# Altium schematic symbol library Connectors.SchLib: 20 symbols
Pins are listed as number, name and electrical type; pins without a type are passive.

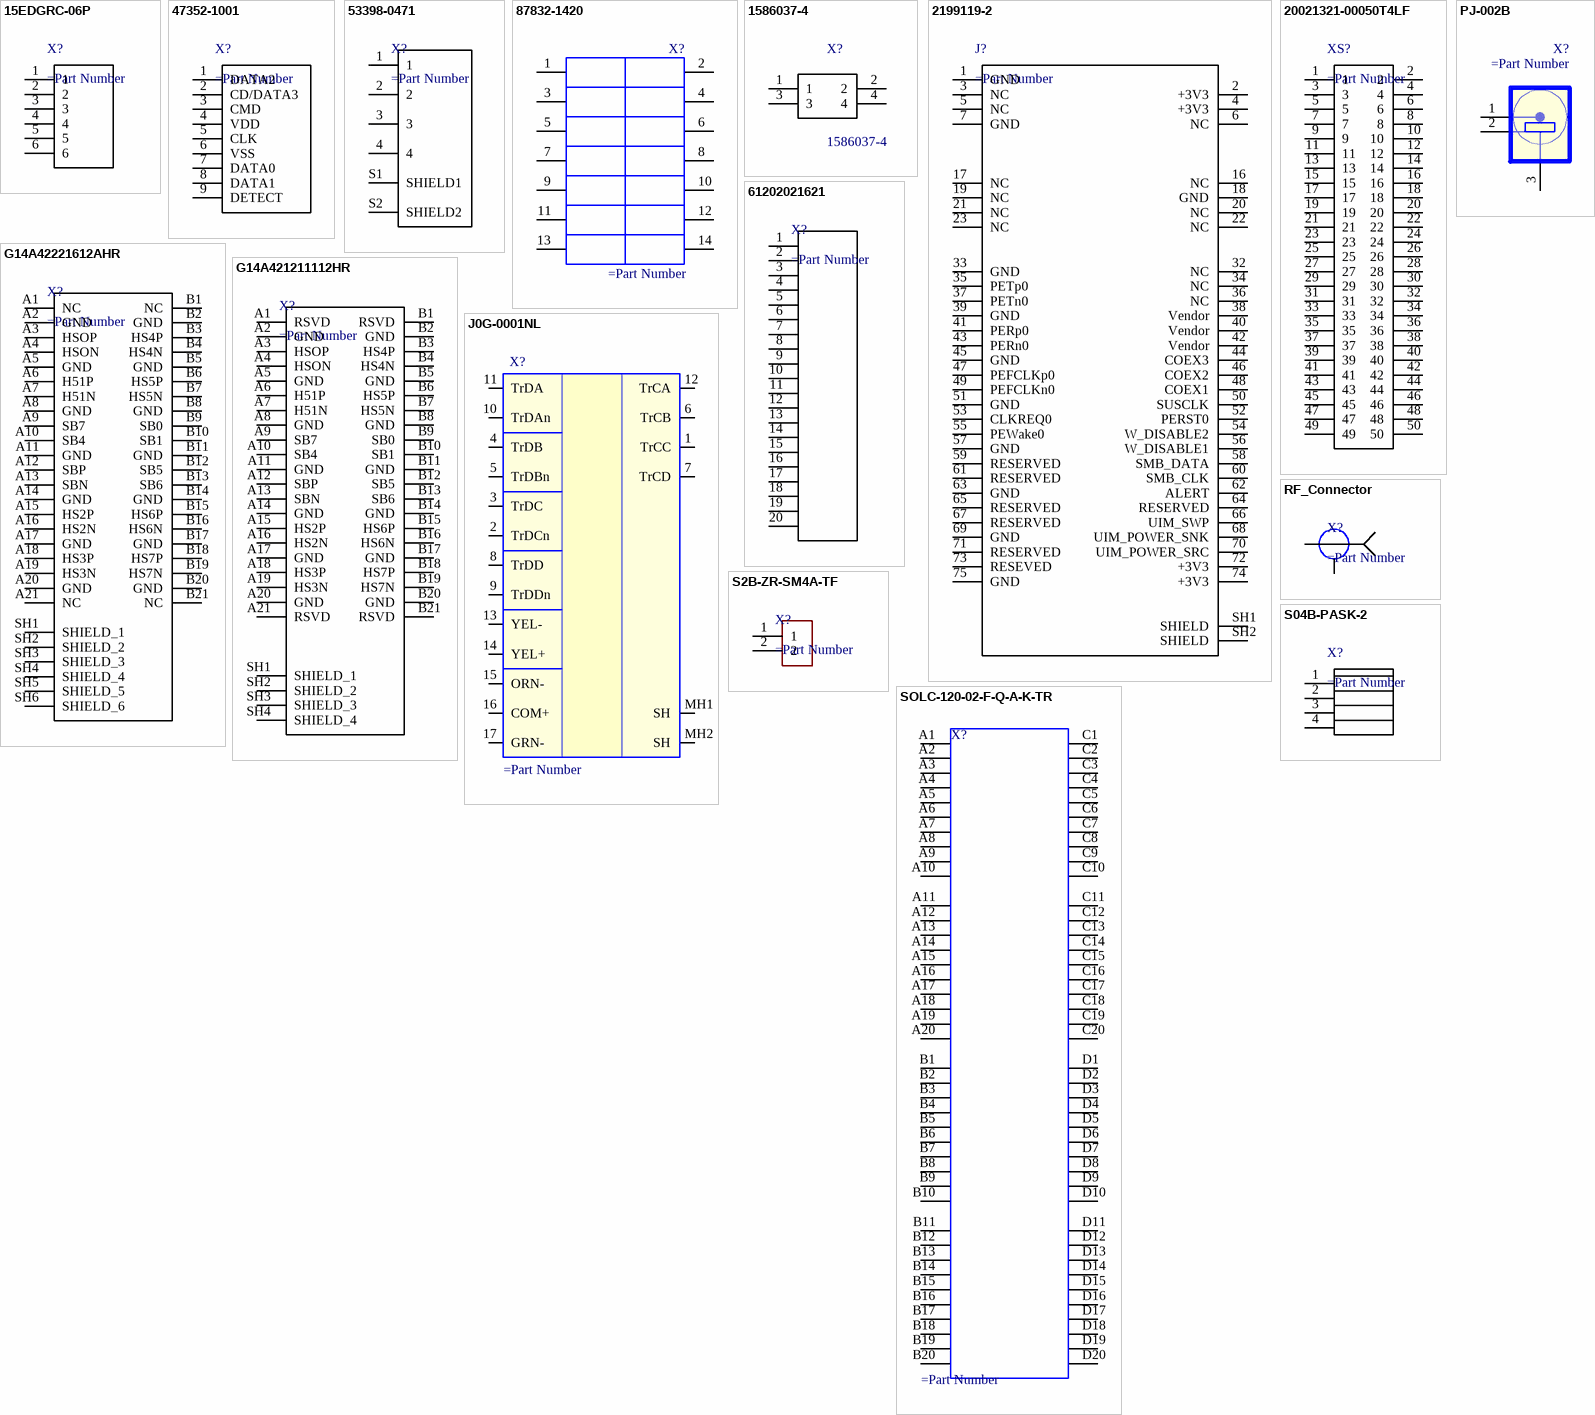
[diagram p0: symbols 15EDGRC-06P to SOLC-120-02-F-Q-A-K-TR]

## 15EDGRC-06P
designator X?
pins: 1, 2, 3, 4, 5, 6

## 47352-1001
designator X?
pins: 1 DATA2, 2 CD/DATA3, 3 CMD, 4 VDD, 5 CLK, 6 VSS, 7 DATA0, 8 DATA1, 9 DETECT

## 53398-0471
designator X?
pins: 1, 2, 3, 4, S1 SHIELD1, S2 SHIELD2

## 87832-1420
designator X?
pins: 1, 2, 3, 4, 5, 6, 7, 8, 9, 10, 11, 12, 13, 14

## 1586037-4
designator X?
pins: 1, 2, 3, 4

## 2199119-2
designator J?
pins: 1 GND, 2 +3V3, 3 NC, 4 +3V3, 5 NC, 6 NC, 7 GND, 16 NC, 17 NC, 18 GND, 19 NC, 20 NC, 21 NC, 22 NC, 23 NC, 32 NC, 33 GND, 34 NC, 35 PETp0, 36 NC, 37 PETn0, 38 Vendor, 39 GND, 40 Vendor, 41 PERp0, 42 Vendor, 43 PERn0, 44 COEX3, 45 GND, 46 COEX2, 47 PEFCLKp0, 48 COEX1, 49 PEFCLKn0, 50 SUSCLK, 51 GND, 52 PERST0, 53 CLKREQ0, 54 W_DISABLE2, 55 PEWake0, 56 W_DISABLE1, 57 GND, 58 SMB_DATA, 59 RESERVED, 60 SMB_CLK, 61 RESERVED, 62 ALERT, 63 GND, 64 RESERVED, 65 RESERVED, 66 UIM_SWP, 67 RESERVED, 68 UIM_POWER_SNK, 69 GND, 70 UIM_POWER_SRC, 71 RESERVED, 72 +3V3, 73 RESEVED, 74 +3V3, 75 GND, SH1 SHIELD, SH2 SHIELD

## 20021321-00050T4LF
designator XS?
pins: 1, 2, 3, 4, 5, 6, 7, 8, 9, 10, 11, 12, 13, 14, 15, 16, 17, 18, 19, 20, 21, 22, 23, 24, 25, 26, 27, 28, 29, 30, 31, 32, 33, 34, 35, 36, 37, 38, 39, 40, 41, 42, 43, 44, 45, 46, 47, 48, 49, 50

## 61202021621
designator X?
pins: 1, 2, 3, 4, 5, 6, 7, 8, 9, 10, 11, 12, 13, 14, 15, 16, 17, 18, 19, 20

## G14A42221612AHR
designator X?
pins: A1 NC, A2 GND, A3 HSOP, A4 HSON, A5 GND, A6 H51P, A7 H51N, A8 GND, A9 SB7, A10 SB4, A11 GND, A12 SBP, A13 SBN, A14 GND, A15 HS2P, A16 HS2N, A17 GND, A18 HS3P, A19 HS3N, A20 GND, A21 NC, B1 NC, B2 GND, B3 HS4P, B4 HS4N, B5 GND, B6 HS5P, B7 HS5N, B8 GND, B9 SB0, B10 SB1, B11 GND, B12 SB5, B13 SB6, B14 GND, B15 HS6P, B16 HS6N, B17 GND, B18 HS7P, B19 HS7N, B20 GND, B21 NC, SH1 SHIELD_1, SH2 SHIELD_2, SH3 SHIELD_3, SH4 SHIELD_4, SH5 SHIELD_5, SH6 SHIELD_6

## G14A421211112HR
designator X?
pins: A1 RSVD, A2 GND, A3 HSOP, A4 HSON, A5 GND, A6 H51P, A7 H51N, A8 GND, A9 SB7, A10 SB4, A11 GND, A12 SBP, A13 SBN, A14 GND, A15 HS2P, A16 HS2N, A17 GND, A18 HS3P, A19 HS3N, A20 GND, A21 RSVD, B1 RSVD, B2 GND, B3 HS4P, B4 HS4N, B5 GND, B6 HS5P, B7 HS5N, B8 GND, B9 SB0, B10 SB1, B11 GND, B12 SB5, B13 SB6, B14 GND, B15 HS6P, B16 HS6N, B17 GND, B18 HS7P, B19 HS7N, B20 GND, B21 RSVD, SH1 SHIELD_1, SH2 SHIELD_2, SH3 SHIELD_3, SH4 SHIELD_4

## J0G-0001NL
designator X?
pins: 1 TrCC, 2 TrDCn, 3 TrDC, 4 TrDB, 5 TrDBn, 6 TrCB, 7 TrCD, 8 TrDD, 9 TrDDn, 10 TrDAn, 11 TrDA, 12 TrCA, 13 YEL-, 14 YEL+, 15 ORN-, 16 COM+, 17 GRN-, MH1 SH (power), MH2 SH (power)

## PJ-002B
designator X?
pins: 1 VCC, 2 GND, 3 CASE

## RF_Connector
designator X?
pins: 1, 2

## S2B-ZR-SM4A-TF
designator X?
MF: JST Sales; MP: S2B-ZR-SM4A-TF; SnapEDA_Link: https://www.snapeda.com/parts/S2B-ZR-SM4A-TF/JST/view-part/?ref=snap; Package: None; Value: *; Check_prices: https://www.snapeda.com/parts/S2B-ZR-SM4A-TF/JST/view-part/?ref=eda
footprint JST_S2B-ZR-SM4A-TF
pins: 1, 2

## S04B-PASK-2
designator X?
pins: 1, 2, 3, 4

## SOLC-120-02-F-Q-A-K-TR
designator X?
pins: A1, A2, A3, A4, A5, A6, A7, A8, A9, A10, A11, A12, A13, A14, A15, A16, A17, A18, A19, A20, B1, B2, B3, B4, B5, B6, B7, B8, B9, B10, B11, B12, B13, B14, B15, B16, B17, B18, B19, B20, C1, C2, C3, C4, C5, C6, C7, C8, C9, C10, C11, C12, C13, C14, C15, C16, C17, C18, C19, C20, D1, D2, D3, D4, D5, D6, D7, D8, D9, D10, D11, D12, D13, D14, D15, D16, D17, D18, D19, D20

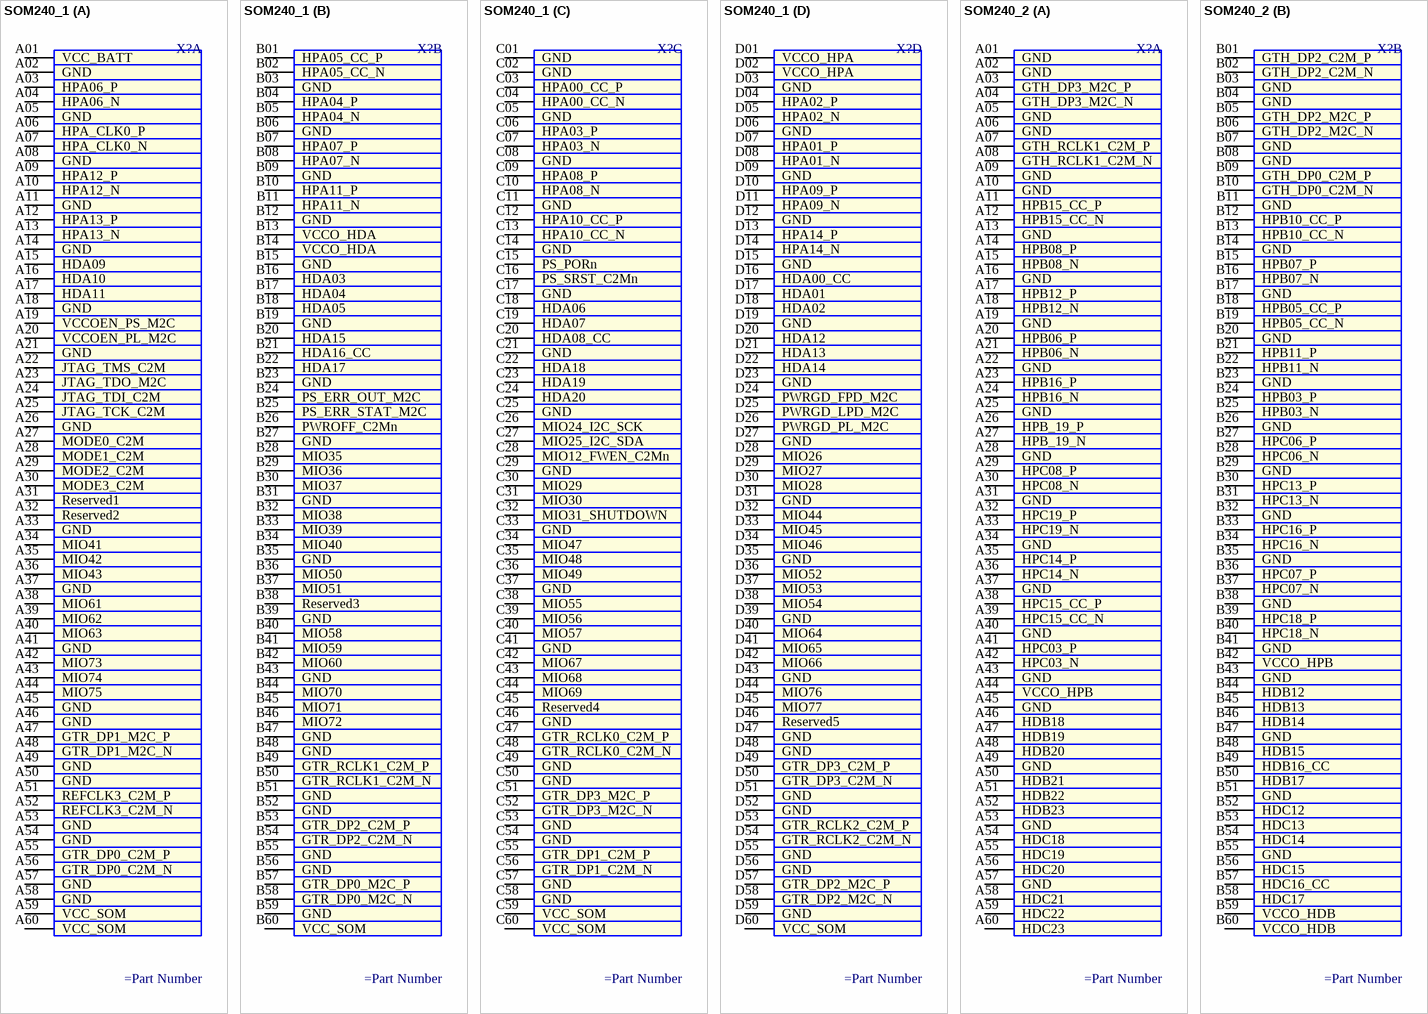
[diagram p1: symbols SOM240_1 to SOM240_2]

## SOM240_1
designator X?
part A pins: A01 VCC_BATT, A02 GND, A03 HPA06_P, A04 HPA06_N, A05 GND, A06 HPA_CLK0_P, A07 HPA_CLK0_N, A08 GND, A09 HPA12_P, A10 HPA12_N, A11 GND, A12 HPA13_P, A13 HPA13_N, A14 GND, A15 HDA09, A16 HDA10, A17 HDA11, A18 GND, A19 VCCOEN_PS_M2C, A20 VCCOEN_PL_M2C, A21 GND, A22 JTAG_TMS_C2M, A23 JTAG_TDO_M2C, A24 JTAG_TDI_C2M, A25 JTAG_TCK_C2M, A26 GND, A27 MODE0_C2M, A28 MODE1_C2M, A29 MODE2_C2M, A30 MODE3_C2M, A31 Reserved1, A32 Reserved2, A33 GND, A34 MIO41, A35 MIO42, A36 MIO43, A37 GND, A38 MIO61, A39 MIO62, A40 MIO63, A41 GND, A42 MIO73, A43 MIO74, A44 MIO75, A45 GND, A46 GND, A47 GTR_DP1_M2C_P, A48 GTR_DP1_M2C_N, A49 GND, A50 GND, A51 REFCLK3_C2M_P, A52 REFCLK3_C2M_N, A53 GND, A54 GND, A55 GTR_DP0_C2M_P, A56 GTR_DP0_C2M_N, A57 GND, A58 GND, A59 VCC_SOM, A60 VCC_SOM
part B pins: B01 HPA05_CC_P, B02 HPA05_CC_N, B03 GND, B04 HPA04_P, B05 HPA04_N, B06 GND, B07 HPA07_P, B08 HPA07_N, B09 GND, B10 HPA11_P, B11 HPA11_N, B12 GND, B13 VCCO_HDA, B14 VCCO_HDA, B15 GND, B16 HDA03, B17 HDA04, B18 HDA05, B19 GND, B20 HDA15, B21 HDA16_CC, B22 HDA17, B23 GND, B24 PS_ERR_OUT_M2C, B25 PS_ERR_STAT_M2C, B26 PWROFF_C2Mn, B27 GND, B28 MIO35, B29 MIO36, B30 MIO37, B31 GND, B32 MIO38, B33 MIO39, B34 MIO40, B35 GND, B36 MIO50, B37 MIO51, B38 Reserved3, B39 GND, B40 MIO58, B41 MIO59, B42 MIO60, B43 GND, B44 MIO70, B45 MIO71, B46 MIO72, B47 GND, B48 GND, B49 GTR_RCLK1_C2M_P, B50 GTR_RCLK1_C2M_N, B51 GND, B52 GND, B53 GTR_DP2_C2M_P, B54 GTR_DP2_C2M_N, B55 GND, B56 GND, B57 GTR_DP0_M2C_P, B58 GTR_DP0_M2C_N, B59 GND, B60 VCC_SOM
part C pins: C01 GND, C02 GND, C03 HPA00_CC_P, C04 HPA00_CC_N, C05 GND, C06 HPA03_P, C07 HPA03_N, C08 GND, C09 HPA08_P, C10 HPA08_N, C11 GND, C12 HPA10_CC_P, C13 HPA10_CC_N, C14 GND, C15 PS_PORn, C16 PS_SRST_C2Mn, C17 GND, C18 HDA06, C19 HDA07, C20 HDA08_CC, C21 GND, C22 HDA18, C23 HDA19, C24 HDA20, C25 GND, C26 MIO24_I2C_SCK, C27 MIO25_I2C_SDA, C28 MIO12_FWEN_C2Mn, C29 GND, C30 MIO29, C31 MIO30, C32 MIO31_SHUTDOWN, C33 GND, C34 MIO47, C35 MIO48, C36 MIO49, C37 GND, C38 MIO55, C39 MIO56, C40 MIO57, C41 GND, C42 MIO67, C43 MIO68, C44 MIO69, C45 Reserved4, C46 GND, C47 GTR_RCLK0_C2M_P, C48 GTR_RCLK0_C2M_N, C49 GND, C50 GND, C51 GTR_DP3_M2C_P, C52 GTR_DP3_M2C_N, C53 GND, C54 GND, C55 GTR_DP1_C2M_P, C56 GTR_DP1_C2M_N, C57 GND, C58 GND, C59 VCC_SOM, C60 VCC_SOM
part D pins: D01 VCCO_HPA, D02 VCCO_HPA, D03 GND, D04 HPA02_P, D05 HPA02_N, D06 GND, D07 HPA01_P, D08 HPA01_N, D09 GND, D10 HPA09_P, D11 HPA09_N, D12 GND, D13 HPA14_P, D14 HPA14_N, D15 GND, D16 HDA00_CC, D17 HDA01, D18 HDA02, D19 GND, D20 HDA12, D21 HDA13, D22 HDA14, D23 GND, D24 PWRGD_FPD_M2C, D25 PWRGD_LPD_M2C, D26 PWRGD_PL_M2C, D27 GND, D28 MIO26, D29 MIO27, D30 MIO28, D31 GND, D32 MIO44, D33 MIO45, D34 MIO46, D35 GND, D36 MIO52, D37 MIO53, D38 MIO54, D39 GND, D40 MIO64, D41 MIO65, D42 MIO66, D43 GND, D44 MIO76, D45 MIO77, D46 Reserved5, D47 GND, D48 GND, D49 GTR_DP3_C2M_P, D50 GTR_DP3_C2M_N, D51 GND, D52 GND, D53 GTR_RCLK2_C2M_P, D54 GTR_RCLK2_C2M_N, D55 GND, D56 GND, D57 GTR_DP2_M2C_P, D58 GTR_DP2_M2C_N, D59 GND, D60 VCC_SOM

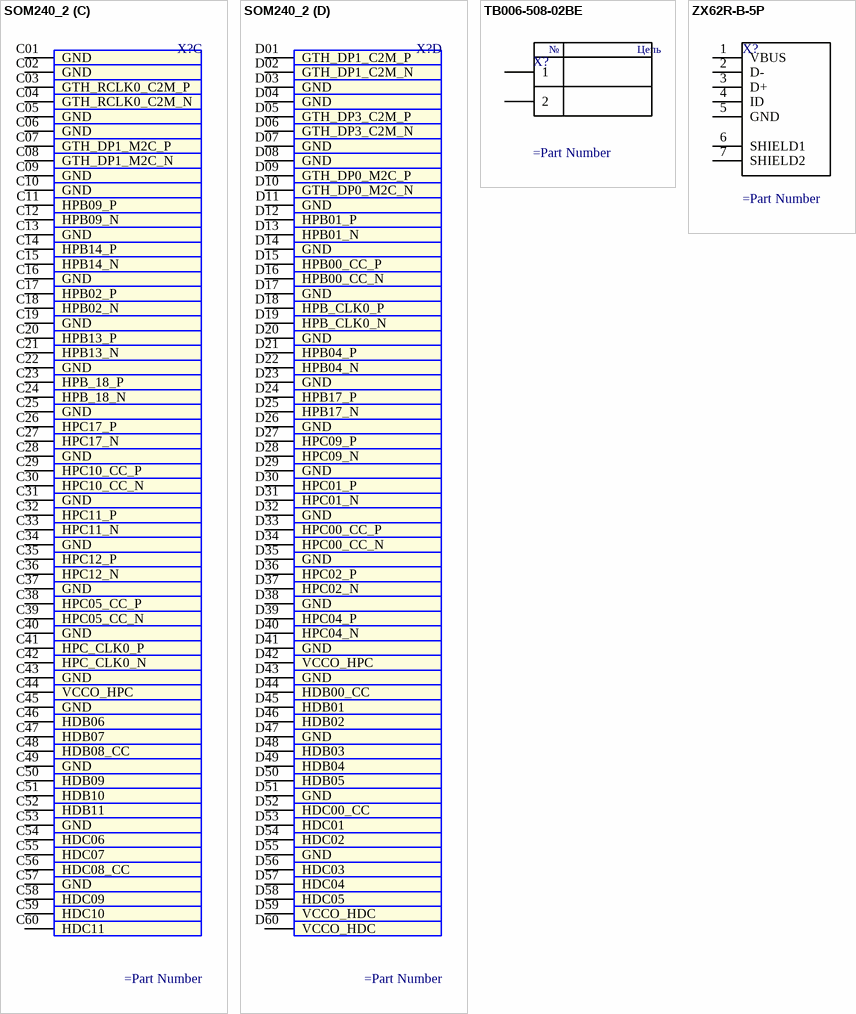
[diagram p2: symbols SOM240_2 to ZX62R-B-5P]

## SOM240_2
designator X?
part A pins: A01 GND, A02 GND, A03 GTH_DP3_M2C_P, A04 GTH_DP3_M2C_N, A05 GND, A06 GND, A07 GTH_RCLK1_C2M_P, A08 GTH_RCLK1_C2M_N, A09 GND, A10 GND, A11 HPB15_CC_P, A12 HPB15_CC_N, A13 GND, A14 HPB08_P, A15 HPB08_N, A16 GND, A17 HPB12_P, A18 HPB12_N, A19 GND, A20 HPB06_P, A21 HPB06_N, A22 GND, A23 HPB16_P, A24 HPB16_N, A25 GND, A26 HPB_19_P, A27 HPB_19_N, A28 GND, A29 HPC08_P, A30 HPC08_N, A31 GND, A32 HPC19_P, A33 HPC19_N, A34 GND, A35 HPC14_P, A36 HPC14_N, A37 GND, A38 HPC15_CC_P, A39 HPC15_CC_N, A40 GND, A41 HPC03_P, A42 HPC03_N, A43 GND, A44 VCCO_HPB, A45 GND, A46 HDB18, A47 HDB19, A48 HDB20, A49 GND, A50 HDB21, A51 HDB22, A52 HDB23, A53 GND, A54 HDC18, A55 HDC19, A56 HDC20, A57 GND, A58 HDC21, A59 HDC22, A60 HDC23
part B pins: B01 GTH_DP2_C2M_P, B02 GTH_DP2_C2M_N, B03 GND, B04 GND, B05 GTH_DP2_M2C_P, B06 GTH_DP2_M2C_N, B07 GND, B08 GND, B09 GTH_DP0_C2M_P, B10 GTH_DP0_C2M_N, B11 GND, B12 HPB10_CC_P, B13 HPB10_CC_N, B14 GND, B15 HPB07_P, B16 HPB07_N, B17 GND, B18 HPB05_CC_P, B19 HPB05_CC_N, B20 GND, B21 HPB11_P, B22 HPB11_N, B23 GND, B24 HPB03_P, B25 HPB03_N, B26 GND, B27 HPC06_P, B28 HPC06_N, B29 GND, B30 HPC13_P, B31 HPC13_N, B32 GND, B33 HPC16_P, B34 HPC16_N, B35 GND, B36 HPC07_P, B37 HPC07_N, B38 GND, B39 HPC18_P, B40 HPC18_N, B41 GND, B42 VCCO_HPB, B43 GND, B44 HDB12, B45 HDB13, B46 HDB14, B47 GND, B48 HDB15, B49 HDB16_CC, B50 HDB17, B51 GND, B52 HDC12, B53 HDC13, B54 HDC14, B55 GND, B56 HDC15, B57 HDC16_CC, B58 HDC17, B59 VCCO_HDB, B60 VCCO_HDB
part C pins: C01 GND, C02 GND, C03 GTH_RCLK0_C2M_P, C04 GTH_RCLK0_C2M_N, C05 GND, C06 GND, C07 GTH_DP1_M2C_P, C08 GTH_DP1_M2C_N, C09 GND, C10 GND, C11 HPB09_P, C12 HPB09_N, C13 GND, C14 HPB14_P, C15 HPB14_N, C16 GND, C17 HPB02_P, C18 HPB02_N, C19 GND, C20 HPB13_P, C21 HPB13_N, C22 GND, C23 HPB_18_P, C24 HPB_18_N, C25 GND, C26 HPC17_P, C27 HPC17_N, C28 GND, C29 HPC10_CC_P, C30 HPC10_CC_N, C31 GND, C32 HPC11_P, C33 HPC11_N, C34 GND, C35 HPC12_P, C36 HPC12_N, C37 GND, C38 HPC05_CC_P, C39 HPC05_CC_N, C40 GND, C41 HPC_CLK0_P, C42 HPC_CLK0_N, C43 GND, C44 VCCO_HPC, C45 GND, C46 HDB06, C47 HDB07, C48 HDB08_CC, C49 GND, C50 HDB09, C51 HDB10, C52 HDB11, C53 GND, C54 HDC06, C55 HDC07, C56 HDC08_CC, C57 GND, C58 HDC09, C59 HDC10, C60 HDC11
part D pins: D01 GTH_DP1_C2M_P, D02 GTH_DP1_C2M_N, D03 GND, D04 GND, D05 GTH_DP3_C2M_P, D06 GTH_DP3_C2M_N, D07 GND, D08 GND, D09 GTH_DP0_M2C_P, D10 GTH_DP0_M2C_N, D11 GND, D12 HPB01_P, D13 HPB01_N, D14 GND, D15 HPB00_CC_P, D16 HPB00_CC_N, D17 GND, D18 HPB_CLK0_P, D19 HPB_CLK0_N, D20 GND, D21 HPB04_P, D22 HPB04_N, D23 GND, D24 HPB17_P, D25 HPB17_N, D26 GND, D27 HPC09_P, D28 HPC09_N, D29 GND, D30 HPC01_P, D31 HPC01_N, D32 GND, D33 HPC00_CC_P, D34 HPC00_CC_N, D35 GND, D36 HPC02_P, D37 HPC02_N, D38 GND, D39 HPC04_P, D40 HPC04_N, D41 GND, D42 VCCO_HPC, D43 GND, D44 HDB00_CC, D45 HDB01, D46 HDB02, D47 GND, D48 HDB03, D49 HDB04, D50 HDB05, D51 GND, D52 HDC00_CC, D53 HDC01, D54 HDC02, D55 GND, D56 HDC03, D57 HDC04, D58 HDC05, D59 VCCO_HDC, D60 VCCO_HDC

## TB006-508-02BE
designator X?
Manufacturer: Same Sky (Formerly CUI Devices); Partnumber: TB006-508-02BE; Component_Type: Terminal block; PnP_Name: X-TB006-508-02BE; Current Rating (Amps): 12 A; Connector Type: Screw - Rising Cage Clamp; UID: X-TB006-508-02BE; Mounting Type: Through Hole; Operating Temperature: -40°C ~ 105°C
footprint CUI_TB006 -508-02BE
pins: 1, 2
text: №; Цепь

## ZX62R-B-5P
designator X?
pins: 1 VBUS (power), 2 D-, 3 D+, 4 ID, 5 GND (power), 6 SHIELD1, 7 SHIELD2